# Altium schematic symbol library JKFF.SchLib: 1 symbol
Pins are listed as number, name and electrical type; pins without a type are passive.

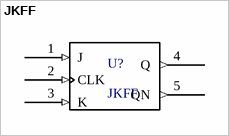
[diagram p0: symbol JKFF]

## JKFF
designator U?
JK Flip-Flop symbol
pins: 1 J (in), 2 CLK (in), 3 K (in), 4 Q (out), 5 QN (out)